# EAGLE library part 831-3607 (library con-wago_7.62mm)
Serie 831, Stiftleiste (für Leiterplatten) mit geraden Einlötstiften / Series 831, Male header (for PCBs) with straight solder pins Polzahl / Pole No.: 7 Bemessungsspannung / Rated Voltage: 630 V Nennstrom / Nominal Current: 41 A Lötstiftlänge: / Solder Pin Length: 4 mm Farbe / Color: lichtgrau / light gray Stand: 01.01.2012. Die jeweils aktuellen Daten zu diesem Artikel finden Sie in unserem Produktkatalog, den Sie unter www.wago.com einsehen können. As of: 01/01/2012. Please find the newest data for this article in our product catalogue, which can be viewed under www.wago.com.
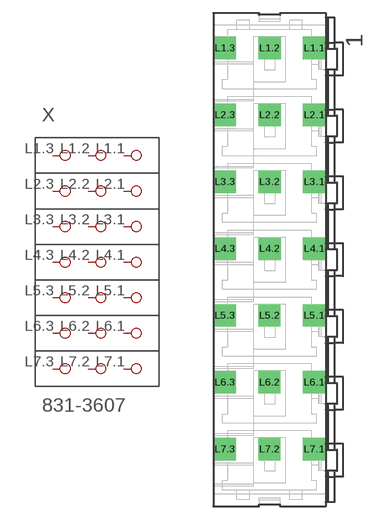
[diagram p5: symbol with the pads of P-831-3607; footprint P-831-3607]

Designator prefix X

## 831-3607  [P-831-3607]
L1.1  P1.1
L1.2  P1.2
L1.3  P1.3
L2.1  P2.1
L2.2  P2.2
L2.3  P2.3
L3.1  P3.1
L3.2  P3.2
L3.3  P3.3
L4.1  P4.1
L4.2  P4.2
L4.3  P4.3
L5.1  P5.1
L5.2  P5.2
L5.3  P5.3
L6.1  P6.1
L6.2  P6.2
L6.3  P6.3
L7.1  P7.1
L7.2  P7.2
L7.3  P7.3

## Footprint P-831-3607 (pad centres in mm)
drill 1.7 square: L1.1 4.08,24.13; L1.2 -1,24.13; L1.3 -6.08,24.13; L2.1 4.08,16.51; L2.2 -1,16.51; L2.3 -6.08,16.51; L3.1 4.08,8.89; L3.2 -1,8.89; L3.3 -6.08,8.89; L4.1 4.08,1.27; L4.2 -1,1.27; L4.3 -6.08,1.27; L5.1 4.07,-6.35; L5.2 -1.01,-6.35; L5.3 -6.09,-6.35; L6.1 4.07,-13.97; L6.2 -1.01,-13.97; L6.3 -6.09,-13.97; L7.1 4.07,-21.59; L7.2 -1.01,-21.59; L7.3 -6.09,-21.59